# Altium schematic symbol library switch-omron.SCHLIB: 9 symbols
Pins are listed as number, name and electrical type; pins without a type are passive.

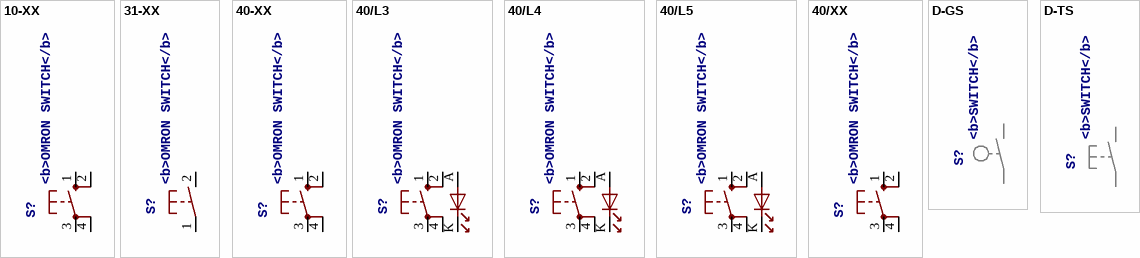
[diagram p0: symbols 10-XX to D-TS]

## 10-XX
designator S?, comment <b>OMRON SWITCH</b>
MPN: B3F-1000; OC_FARNELL: 176432; OC_NEWARK: 36M3542
footprint B3F-10XX
pins: 1 S, 2 S1, 3 P, 4 P1

## 31-XX
designator S?, comment <b>OMRON SWITCH</b>
MPN: B3F-3100; OC_FARNELL: 959704; OC_NEWARK: 36M3582
footprint B3F-31XX
pins: 1 P, 2 S

## 40-XX
designator S?, comment <b>OMRON SWITCH</b>
MPN: B3F-4000; MF: OMRON COMPONENTS USA; OC_FARNELL: 176434; OC_NEWARK: 36K3105
footprint B3F-40XX
pins: 1 S, 2 S1, 3 P, 4 P1

## 40/L3
designator S?, comment <b>OMRON SWITCH</b>
OC_FARNELL: unknown; OC_NEWARK: unknown
footprint B3F/40L3
pins: 1 S, 2 S1, 3 P, 4 P1, A, K C

## 40/L4
designator S?, comment <b>OMRON SWITCH</b>
OC_FARNELL: unknown; OC_NEWARK: unknown
footprint B3F/40L4
pins: 1 S, 2 S1, 3 P, 4 P1, A, K C

## 40/L5
designator S?, comment <b>OMRON SWITCH</b>
OC_FARNELL: unknown; OC_NEWARK: unknown
footprint B3F/40L5
pins: 1 S, 2 S1, 3 P, 4 P1, A, K C

## 40/XX
designator S?, comment <b>OMRON SWITCH</b>
OC_FARNELL: unknown; OC_NEWARK: unknown
footprint B3F/40XX
pins: 1 S, 2 S1, 3 P, 4 P1

## D-GS
designator S?, comment <b>SWITCH</b>

## D-TS
designator S?, comment <b>SWITCH</b>